# Altium footprint library Wurth_Elektronik_Passive_rev16a.PCBLIB: 810 footprints (part 12 of 51)
Each footprint in its own frame and in the unit in brackets; x right, y up, seen from the top. Pads: shape width x height; smd on the part's side, far side on the other; paste and mask are expansions set on the pad; w line width, h text height; cw(c..) or ccw(c..) is an arc to the next point about the centre after c.
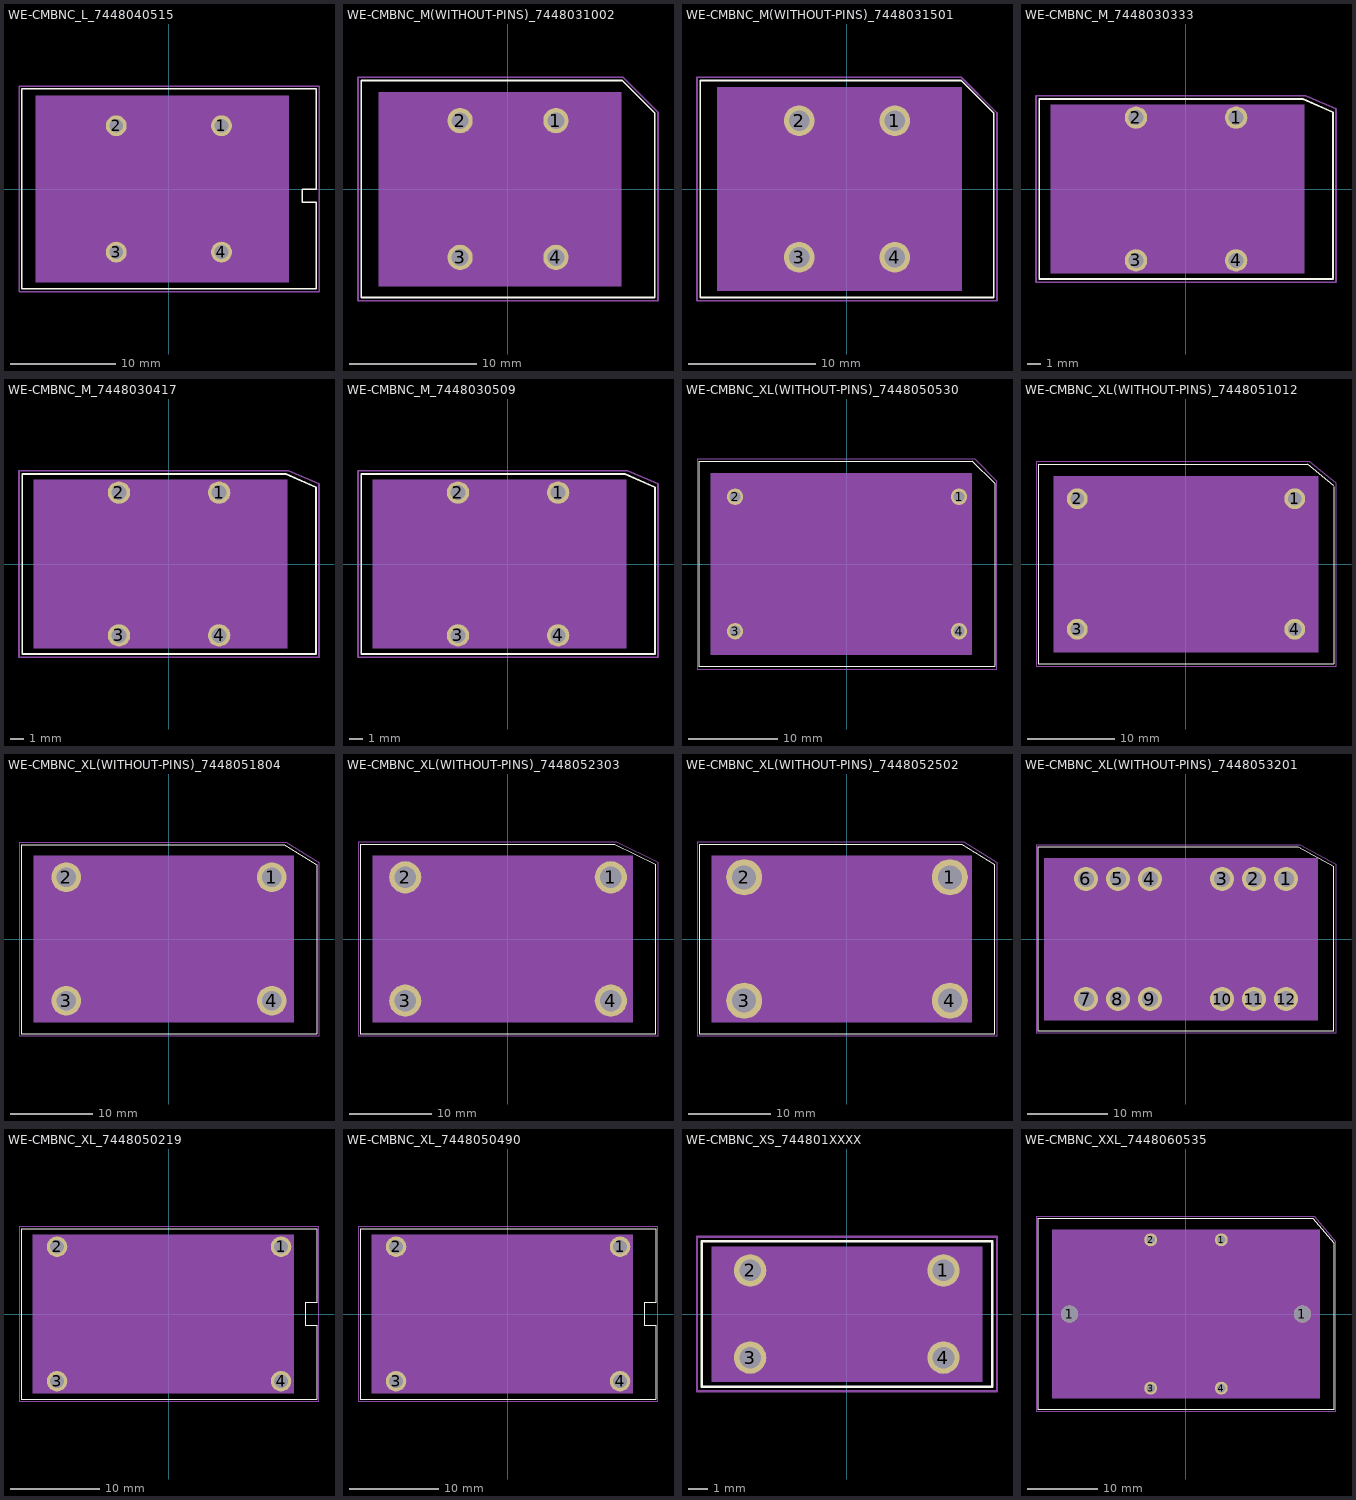
[diagram p11: the footprints below, top view; thin cyan lines are the x and y axes]

## WE-CMBNC_L_7448040515 [mil]
pads (4):
  round 78 hole 52: 1(197,237) 2(-196.85,237) 3(-196.85,-236.22) 4(197,-236.22)
Top Overlay:
  lines w5: -551.18,-374.02 552,-374.02 552,-50 500,-50 500,0 552,0 552,375 -551.18,375 -551.18,-374.02
Mechanical 2:
  text ">NAME" at -568.11,476 h77.5
Mechanical 4:
  text ">VALUE" at -537.8,-484.65 h77.5
Mechanical 10:
  rectangle: -500,-350 450,350
Mechanical 27:
  lines w5: -561.02,-383.86 562,-383.86 562,384 -561.02,384 -561.02,-383.86

## WE-CMBNC_M(WITHOUT-PINS)_7448031002 [mil]
pads (4):
  round 78 hole 52: 1(148,211) 2(-147.64,211) 3(-147.64,-210.63) 4(148,-210.63)
Top Overlay:
  lines w5: -452.76,-334.65 453,-334.65 453,235 353,335 -452.76,335 -452.76,-334.65
Mechanical 2:
  text ">NAME" at -468.11,426 h77.5
Mechanical 4:
  text ">VALUE" at -487.8,-434.65 h77.5
Mechanical 10:
  rectangle: -400,-300 350,300
Mechanical 27:
  lines w5: -462.6,-344.49 463,-344.49 463,237 355,345 -462.6,345 -462.6,-344.49

## WE-CMBNC_M(WITHOUT-PINS)_7448031501 [mil]
pads (4):
  round 94.5 hole 63: 1(148,211) 2(-147.64,211) 3(-147.64,-210.63) 4(148,-210.63)
Top Overlay:
  lines w5: -452.76,-334.65 453,-334.65 ; -452.76,-334.65 -452.76,335 ; -452.76,-334.65 453,-334.65 ; -452.76,-334.65 -452.76,335 ; -452.76,335 353,335 ; -452.76,335 353,335 ; 353,335 453,235 ; 353,335 453,235 ; 453,-334.65 453,235 ; 453,-334.65 453,235
Mechanical 2:
  text ">NAME" at -468.11,426 h77.5
Mechanical 4:
  text ">VALUE" at -487.8,-434.65 h77.5
Mechanical 10:
  rectangle: -401.57,-314.96 355,315
Mechanical 27:
  lines w5: -462.6,-344.49 463,-344.49 463,235 353,345 -462.6,345 -462.6,-344.49

## WE-CMBNC_M_7448030333 [mil]
pads (4):
  round 66 hole 44: 1(148,211) 2(-147.64,211) 3(-147.64,-210.63) 4(148,-210.63)
Top Overlay:
  lines w5: -433.07,-265.75 434,-265.75 434,227 345,266 -433.07,266 -433.07,-265.75
Mechanical 2:
  text ">NAME" at -468.11,326 h77.5
Mechanical 4:
  text ">VALUE" at -487.8,-384.65 h77.5
Mechanical 10:
  rectangle: -400,-250 350,250
Mechanical 27:
  lines w5: -442.91,-275.59 443,-275.59 443,237 353,276 -442.91,276 -442.91,-275.59

## WE-CMBNC_M_7448030417 [mil]
pads (4):
  round 66 hole 44: 1(148,211) 2(-147.64,211) 3(-147.64,-210.63) 4(148,-210.63)
Top Overlay:
  lines w5: -433.07,-265.75 434,-265.75 434,227 345,266 -433.07,266 -433.07,-265.75
Mechanical 2:
  text ">NAME" at -468.11,326 h77.5
Mechanical 4:
  text ">VALUE" at -487.8,-384.65 h77.5
Mechanical 10:
  rectangle: -400,-250 350,250
Mechanical 27:
  lines w5: -442.91,-275.59 443,-275.59 443,237 353,276 -442.91,276 -442.91,-275.59

## WE-CMBNC_M_7448030509 [mil]
pads (4):
  round 66 hole 44: 1(148,211) 2(-147.64,211) 3(-147.64,-210.63) 4(148,-210.63)
Top Overlay:
  lines w5: -433.07,-265.75 434,-265.75 434,227 345,266 -433.07,266 -433.07,-265.75
Mechanical 2:
  text ">NAME" at -468.11,326 h77.5
Mechanical 4:
  text ">VALUE" at -487.8,-384.65 h77.5
Mechanical 10:
  rectangle: -400,-250 350,250
Mechanical 27:
  lines w5: -442.91,-275.59 443,-275.59 443,237 353,276 -442.91,276 -442.91,-275.59

## WE-CMBNC_XL(WITHOUT-PINS)_7448050530 [mil]
pads (4):
  round 72 hole 48: 1(493,296) 2(-492.13,296) 3(-492.13,-295.28) 4(493,-295.28)
Top Overlay:
  lines w5: 650,-452.76 -649.61,-452.76 -649.61,453 552,453 650,355 650,-450
Mechanical 2:
  text ">NAME" at -768.11,526 h77.5
Mechanical 4:
  text ">VALUE" at -737.8,-534.65 h77.5
Mechanical 10:
  rectangle: -600,-400 550,400
Mechanical 27:
  lines w5: -659.45,-462.6 -659.45,463 562,463 660,365 660,-462.6 -659.45,-462.6

## WE-CMBNC_XL(WITHOUT-PINS)_7448051012 [mil]
pads (4):
  round 94.5 hole 63: 1(493,296) 2(-492.13,296) 3(-492.13,-295.28) 4(493,-295.28)
Top Overlay:
  lines w5: 670,350 670,-452.76 -669.29,-452.76 -669.29,453 552,453 670,355
Mechanical 2:
  text ">NAME" at -718.11,526 h77.5
Mechanical 4:
  text ">VALUE" at -687.8,-584.65 h77.5
Mechanical 10:
  rectangle: -600,-400 600,400
Mechanical 27:
  lines w5: -679.13,-462.6 -679.13,463 562,463 680,365 680,-462.6 -679.13,-462.6

## WE-CMBNC_XL(WITHOUT-PINS)_7448051804 [mil]
pads (4):
  round 142.5 hole 95: 1(493,296) 2(-492.13,296) 3(-492.13,-295.28) 4(493,-295.28)
Top Overlay:
  lines w5: -708.66,-452.76 -708.66,453 552,453 709,355 709,-452.76 -708.66,-452.76
Mechanical 2:
  text ">NAME" at -768.11,526 h77.5
Mechanical 4:
  text ">VALUE" at -787.8,-534.65 h77.5
Mechanical 10:
  rectangle: -650,-400 600,400
Mechanical 27:
  lines w5: -718.5,-462.6 -718.5,463 562,463 719,365 719,-462.6 -718.5,-462.6

## WE-CMBNC_XL(WITHOUT-PINS)_7448052303 [mil]
pads (4):
  round 154.5 hole 103: 1(493,296) 2(-492.13,296) 3(-492.13,-295.28) 4(493,-295.28)
Top Overlay:
  lines w5: -708.66,-452.76 -708.66,453 512,453 709,355 709,-452.76 -708.66,-452.76
Mechanical 2:
  text ">NAME" at -718.11,526 h77.5
Mechanical 4:
  text ">VALUE" at -687.8,-584.65 h77.5
Mechanical 10:
  rectangle: -650,-400 600,400
Mechanical 27:
  lines w5: -718.5,-462.6 -718.5,463 522,463 719,365 719,-462.6 -718.5,-462.6

## WE-CMBNC_XL(WITHOUT-PINS)_7448052502 [mil]
pads (4):
  round 172.5 hole 115: 1(493,296) 2(-492.13,296) 3(-492.13,-295.28) 4(493,-295.28)
Top Overlay:
  lines w5: -708.66,-452.76 -708.66,453 552,453 709,355 709,-452.76 -708.66,-452.76
Mechanical 2:
  text ">NAME" at -768.11,526 h77.5
Mechanical 4:
  text ">VALUE" at -737.8,-584.65 h77.5
Mechanical 10:
  rectangle: -650,-400 600,400
Mechanical 27:
  lines w5: -718.5,-462.6 -718.5,463 562,463 719,365 719,-462.6 -718.5,-462.6

## WE-CMBNC_XL(WITHOUT-PINS)_7448053201 [mil]
pads (12):
  round 118.5 hole 79: 1(493,296) 2(335,296) 3(178,296) 4(-177.17,296) 5(-334.65,296) 6(-492.13,296) 7(-492.13,-295.28) 8(-334.65,-295.28) 9(-177.17,-295.28) 10(178,-295.28) 11(335,-295.28) 12(493,-295.28)
Top Overlay:
  lines w5: -728.35,-452.76 -728.35,453 552,453 729,355 729,-452.76 -728.35,-452.76
Mechanical 2:
  text ">NAME" at -750,550 h77.5
Mechanical 4:
  text ">VALUE" at -750,-550 h77.5
Mechanical 10:
  rectangle: -700,-400 650,400
Mechanical 27:
  lines w5: -738.19,-462.6 -738.19,463 562,463 739,365 739,-462.6 -738.19,-462.6

## WE-CMBNC_XL_7448050219 [mil]
pads (4):
  round 90 hole 60: 1(493,296) 2(-492.13,296) 3(-492.13,-295.28) 4(493,-295.28)
Top Overlay:
  lines w5: -649.61,-374.02 -649.61,375 650,375 650,50 600,50 600,-50 650,-50 650,-374.02 -649.61,-374.02
Mechanical 2:
  text ">NAME" at -668.11,426 h77.5
Mechanical 4:
  text ">VALUE" at -687.8,-484.65 h77.5
Mechanical 10:
  rectangle: -600,-350 550,350
Mechanical 27:
  lines w5: -659.45,-383.86 -659.45,384 660,384 660,-383.86 -659.45,-383.86

## WE-CMBNC_XL_7448050490 [mil]
pads (4):
  round 90 hole 60: 1(493,296) 2(-492.13,296) 3(-492.13,-295.28) 4(493,-295.28)
Top Overlay:
  lines w5: -649.61,-374.02 -649.61,375 650,375 650,50 600,50 600,-50 650,-50 650,-374.02 -649.61,-374.02
Mechanical 2:
  text ">NAME" at -668.11,426 h77.5
Mechanical 4:
  text ">VALUE" at -687.8,-484.65 h77.5
Mechanical 10:
  rectangle: -600,-350 550,350
Mechanical 27:
  lines w5: -659.45,-383.86 -659.45,384 660,384 660,-383.86 -659.45,-383.86

## WE-CMBNC_XS_744801XXXX [mil]
pads (4):
  round 66 hole 44: 1(197,89) 2(-196.85,89) 3(-196.85,-88.58) 4(197,-88.58)
Top Overlay:
  lines w5: -295.28,-147.64 -295.28,148 296,148 296,-147.64 -295.28,-147.64
Mechanical 2:
  text ">NAME" at -318.11,176 h77.5
Mechanical 4:
  text ">VALUE" at -337.8,-234.65 h77.5
Mechanical 10:
  rectangle: -275.59,-137.8 276,138
Mechanical 27:
  lines w5: -305.12,-157.48 -305.12,158 306,158 306,-157.48 -305.12,-157.48

## WE-CMBNC_XXL_7448060535 [mil]
pads (6):
  round 95 hole 95: 1(-649.61,0) 1(650,0)
  round 72 hole 48: 1(197,414) 2(-196.85,414) 3(-196.85,-413.39) 4(197,-413.39)
Top Overlay:
  lines w5: -826.77,-531.5 -826.77,532 709,532 827,394 827,-531.5 -826.77,-531.5
Mechanical 2:
  text ">NAME" at -868.11,626 h77.5
Mechanical 4:
  text ">VALUE" at -837.8,-634.65 h77.5
Mechanical 10:
  rectangle: -748.03,-472.44 749,473
Mechanical 27:
  lines w5: -836.61,-541.34 -836.61,542 719,542 837,404 837,-541.34 -836.61,-541.34